# EAGLE library part NKKSPDT (library jos-ph)
NKK Switch SPDT GW22LCP http://www.nkkswitches.com/pdf/GW.pdf
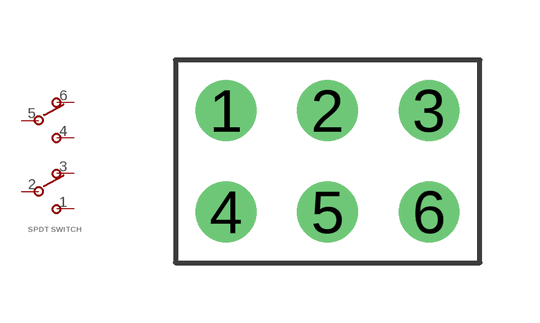
[diagram p4: symbol with the pads of NKKSPDT; footprint NKKSPDT]

Designator prefix -

## NKKSPDT  [NKKSPDT]
1  1
2  2
3  3
4  4
5  5
6  6

## Footprint NKKSPDT (pad centres in mm)
NKK SPDT GW22LCP http://www.nkkswitches.com/pdf/GW.pdf
drill 1.016: 1 -2.54,1.27; 2 0,1.27; 3 2.54,1.27; 4 -2.54,-1.27; 5 0,-1.27; 6 2.54,-1.27